# Altium footprint library 1043.PcbLib: 1 footprints
Each footprint in its own frame and in the unit in brackets; x right, y up, seen from the top. Pads: shape width x height; smd on the part's side, far side on the other; paste and mask are expansions set on the pad; w line width, h text height; cw(c..) or ccw(c..) is an arc to the next point about the centre after c.
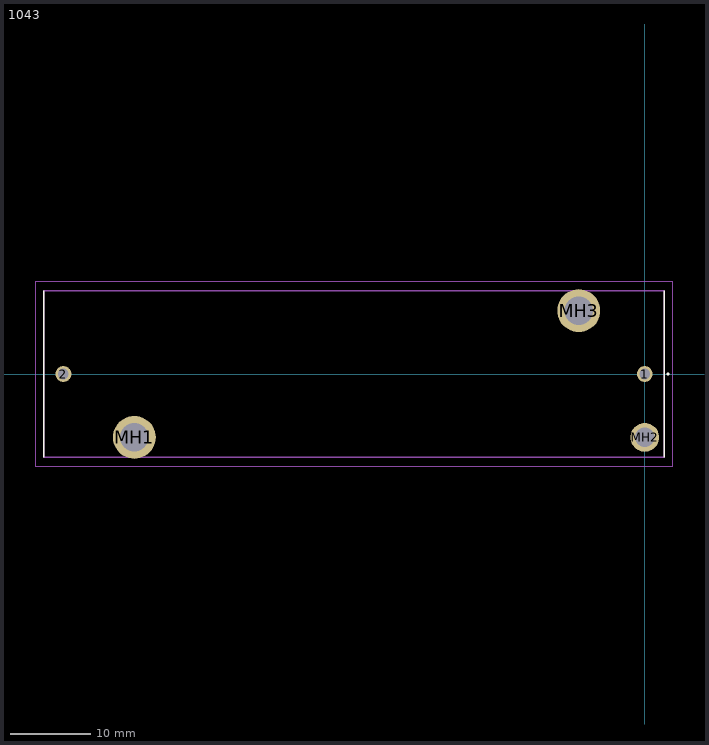
[diagram p0: the footprint, top view; thin cyan lines are the x and y axes]

## 1043 [mm]
pads (5):
  round 1.98 hole 1.32: 1(0,0) 2(-72.22,0)
  round 5.325 hole 3.55: MH1(-63.4,-7.87) MH3(-8.2,7.87)
  round 3.585 hole 2.39: MH2(0,-7.87)
Top Overlay:
  lines w0.1: -74.645,-10.325 -74.645,-10.325 ; -74.645,-10.325 -74.645,10.325 ; -74.645,-10.325 -74.645,10.325 ; -74.645,10.325 -74.645,10.325 ; 2.405,-10.325 2.405,10.325 ; 2.405,-10.325 2.405,-10.325 ; 2.405,-10.325 2.405,10.325 ; 2.405,10.325 2.405,10.325
  lines w0.2: 2.9,-0.1 cw(c2.9,0) 2.9,0.1 ; 2.9,-0.1 2.9,-0.1 ; 2.9,-0.1 ccw(c2.9,0) 2.9,0.1 ; 2.9,0.1 2.9,0.1
Mechanical 15:
  lines w0.2: -74.645,-10.325 2.405,-10.325 2.405,10.325 -74.645,10.325 -74.645,-10.325
Mechanical 20:
  lines w0.1: -75.645,-11.533 3.405,-11.533 3.405,11.533 -75.645,11.533 -75.645,-11.533